# EAGLE library part ATMEGA88 (library avr)
MICROCONTROLLER 8 kBytes FLASH 1 kBytes SRAM 512 Bytes EEPROM USART 8-channel 10 bit ADC
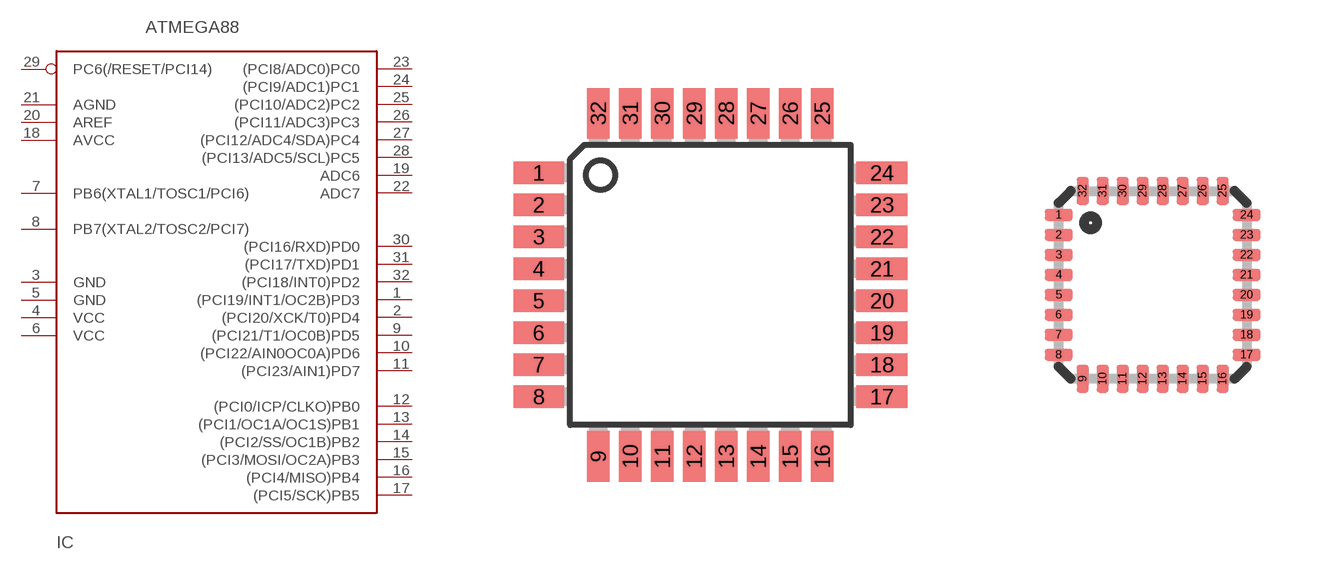
[diagram p55: symbol with the pads of TQFP32-08; footprints TQFP32-08, MLF32]

Designator prefix IC

## ATMEGA88-20A, ATMEGA88V-10A  [TQFP32-08]
1  (PCI19/INT1/OC2B)PD3
2  (PCI20/XCK/T0)PD4
3  GND  pwr
4  VCC  pwr
5  GND  pwr
6  VCC  pwr
7  PB6(XTAL1/TOSC1/PCI6)
8  PB7(XTAL2/TOSC2/PCI7)
9  (PCI21/T1/OC0B)PD5
10  (PCI22/AIN0OC0A)PD6
11  (PCI23/AIN1)PD7
12  (PCI0/ICP/CLKO)PB0
13  (PCI1/OC1A/OC1S)PB1
14  (PCI2/SS/OC1B)PB2
15  (PCI3/MOSI/OC2A)PB3
16  (PCI4/MISO)PB4
17  (PCI5/SCK)PB5
18  AVCC
19  ADC6
20  AREF
21  AGND
22  ADC7
23  (PCI8/ADC0)PC0
24  (PCI9/ADC1)PC1
25  (PCI10/ADC2)PC2
26  (PCI11/ADC3)PC3
27  (PCI12/ADC4/SDA)PC4
28  (PCI13/ADC5/SCL)PC5
29  PC6(/RESET/PCI14)
30  (PCI16/RXD)PD0
31  (PCI17/TXD)PD1
32  (PCI18/INT0)PD2

## ATMEGA88-20M, ATMEGA88V-10M  [MLF32]
Pads as for TQFP32-08

## Footprint TQFP32-08 (pad centres in mm)
Thin Plasic Quad Flat Package Grid 0.8 mm
smd 1.27 x 0.559: 1 -4.293,2.8; 2 -4.293,2; 3 -4.293,1.2; 4 -4.293,0.4; 5 -4.293,-0.4; 6 -4.293,-1.2; 7 -4.293,-2; 8 -4.293,-2.8; 17 4.293,-2.8; 18 4.293,-2; 19 4.293,-1.2; 20 4.293,-0.4; 21 4.293,0.4; 22 4.293,1.2; 23 4.293,2; 24 4.293,2.8
smd 0.559 x 1.27: 9 -2.8,-4.293; 10 -2,-4.293; 11 -1.2,-4.293; 12 -0.4,-4.293; 13 0.4,-4.293; 14 1.2,-4.293; 15 2,-4.293; 16 2.8,-4.293; 25 2.8,4.293; 26 2,4.293; 27 1.2,4.293; 28 0.4,4.293; 29 -0.4,4.293; 30 -1.2,4.293; 31 -2,4.293; 32 -2.8,4.293

## Footprint MLF32 (pad centres in mm)
32M1-A Micro Lead Frame package (MLF)
smd 0.7 x 0.3: 1 -2.35,1.75; 2 -2.35,1.25; 3 -2.35,0.75; 4 -2.35,0.25; 5 -2.35,-0.25; 6 -2.35,-0.75; 7 -2.35,-1.25; 8 -2.35,-1.75; 17 2.35,-1.75; 18 2.35,-1.25; 19 2.35,-0.75; 20 2.35,-0.25; 21 2.35,0.25; 22 2.35,0.75; 23 2.35,1.25; 24 2.35,1.75
smd 0.3 x 0.7: 9 -1.75,-2.35; 10 -1.25,-2.35; 11 -0.75,-2.35; 12 -0.25,-2.35; 13 0.25,-2.35; 14 0.75,-2.35; 15 1.25,-2.35; 16 1.75,-2.35; 25 1.75,2.35; 26 1.25,2.35; 27 0.75,2.35; 28 0.25,2.35; 29 -0.25,2.35; 30 -0.75,2.35; 31 -1.25,2.35; 32 -1.75,2.35